# Altium footprint library 28Pins_Project_V1I1_v4.PcbLib: 29 footprints (part 2 of 2)
Each footprint in its own frame and in the unit in brackets; x right, y up, seen from the top. Pads: shape width x height; smd on the part's side, far side on the other; paste and mask are expansions set on the pad; w line width, h text height; cw(c..) or ccw(c..) is an arc to the next point about the centre after c.
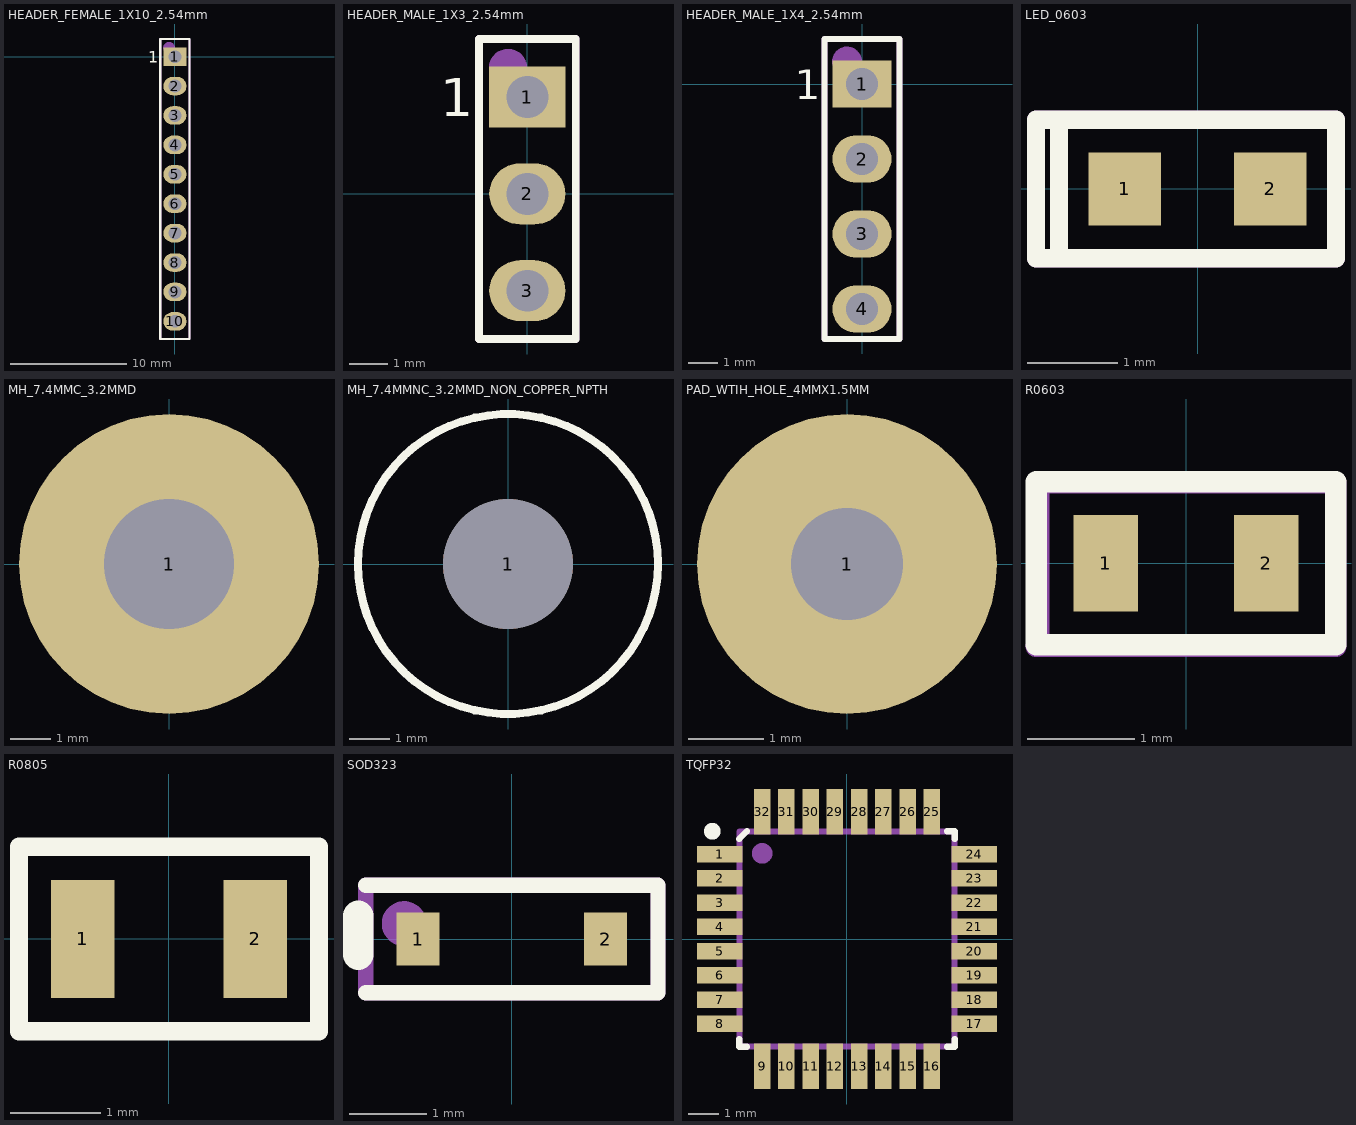
[diagram p1: the footprints below, top view; thin cyan lines are the x and y axes]

## HEADER_FEMALE_1X10_2.54mm [mm]
pads (10):
  rect 2x1.6 hole 1.1: 1(0,0)
  oval 2x1.6 hole 1.1: 2(0,-2.54) 3(0,-5.08) 4(0,-7.62) 5(0,-10.16) 6(0,-12.7) 7(0,-15.24) 8(0,-17.78) 9(0,-20.32) 10(0,-22.86)
Top Overlay:
  lines w0.2: -1.27,-24.384 -1.27,1.524 0,1.524 1.27,1.524 1.27,-24.384 -1.27,-24.384
  text "1" at -2.286,-0.508 h1
Mechanical 29:
  circle w0.5: c-0.508,0.762 r0.254
  lines w0.2: -1.27,-24.384 1.27,-24.384 1.27,1.524 -1.27,1.524 -1.27,-24.384
  text ".Designator" at 0.508,-15.748 h1.52
3D body "m20-7821046_asm.stp": height 8.31, standoff -3.19, extent -1.23,-24.33 1.27,1.47

## HEADER_MALE_1X3_2.54mm [mm]
pads (3):
  rect 2x1.6 hole 1.1: 1(0,2.54)
  oval 2x1.6 hole 1.1: 2(0,0) 3(0,-2.54)
Top Overlay:
  lines w0.2: -1.27,-3.806 1.266,-3.806 1.27,-3.802 1.27,4.064 0,4.064 -1.27,4.064 -1.27,-3.806
  text "1" at -2.286,2.032 h1
Mechanical 29:
  circle w0.5: c-0.508,3.302 r0.254
  lines w0.2: -1.27,-3.806 1.27,-3.806 1.27,4.064 -1.27,4.064 -1.27,-3.806
  text ".Designator" at 0,-1.27 h1.52
3D body "HDR_1x3_White.stp": height 8.39, standoff -3.11, extent -1.2,-3.71 1.21,3.51

## HEADER_MALE_1X4_2.54mm [mm]
pads (4):
  rect 2x1.6 hole 1.1: 1(0,0)
  oval 2x1.6 hole 1.1: 2(0,-2.54) 3(0,-5.08) 4(0,-7.62)
Top Overlay:
  lines w0.2: -1.27,-8.636 -1.27,1.524 0,1.524 1.27,1.524 1.27,-8.636 ; -1.27,-8.632 1.27,-8.632
  text "1" at -2.286,-0.508 h1
Mechanical 29:
  circle w0.5: c-0.508,0.762 r0.254
  lines w0.2: -1.27,-8.636 -1.27,1.524 1.27,1.524 1.27,-8.636 -1.27,-8.636
  text ".Designator" at 0.254,-3.81 h1.52
3D body "HDR_1x4_White.stp": height 8.39, standoff -3.11, extent -1.21,-8.76 1.2,1

## LED_0603 [mm]
pads (2):
  rect 0.8x0.8 smd: 1(-0.8,0) 2(0.8,0)
Top Overlay:
  lines w0.2: -1.524,-0.762 -1.778,-0.762 -1.778,0.762 -1.524,0.762 ; -1.524,-0.762 -1.524,0.762 ; -1.524,-0.762 1.524,-0.762 1.524,0.762 -1.524,0.762
Mechanical 29:
  lines w0.2: -1.778,-0.762 -1.778,0.762 1.524,0.762 1.524,-0.762 -1.778,-0.762
  text ".Designator" at -0.254,-0.254 h0.6
3D body: height 0.66, standoff 0.5, extent -0.254,-0.254 0.254,0.254
3D body "User Library-LED SMD 0603 super red.step": height 0.65, standoff 0, extent -0.85,-0.4 0.85,0.4

## MH_7.4MMC_3.2MMD [mm]
pads (1):
  round 7.4 hole 3.2: 1(0,0)

## MH_7.4MMNC_3.2MMD_NON_COPPER_NPTH [mm]
pads (1):
  round 3.2 hole 3.2 unplated: 1(0,0)
Top Overlay:
  circle w0.2: c0,0 r3.7

## PAD_WTIH_HOLE_4MMX1.5MM [mm]
pads (1):
  round 4 hole 1.5: 1(0,0)

## PCBComponent_1 [mm]

## PCBComponent_1 - duplicate [mm]

## R0603 [mm]
pads (2):
  rect 0.6x0.9 smd: 1(-0.75,0) 2(0.75,0)
Top Overlay:
  lines w0.2: -1.397,-0.762 -1.397,0.762 1.397,0.762 1.397,-0.762 -1.397,-0.762
Mechanical 29:
  lines w0.2: -1.4,-0.775 -1.375,-0.75 -1.375,0.75 1.4,0.75 1.4,-0.775 -1.4,-0.775
  text ".Designator" at -0.05,-0.025 h0.6
3D body "R0603.step": height 0.85, standoff 0.01, extent -0.75,-0.4 0.85,0.4

## R0805 [mm]
pads (2):
  rect 0.7x1.3 smd: 1(-0.95,0) 2(0.95,0)
Top Overlay:
  lines w0.2: -1.651,-1.016 1.651,-1.016 1.651,1.016 -1.651,1.016 -1.651,0 -1.651,-1.016
3D body "User Library-Chip Resistor2.step": height 0.71, standoff 0.01, extent -1,-0.6 1,0.6

## SOD323 [mil]
pads (2):
  rect 22x27 smd: 1(-48,0) 2(48,0)
Top Overlay:
  lines w7.87: -74.8,-27.56 74.8,-27.56 74.8,27.56 -74.8,27.56
  lines w15.75: -78.74,-7.87 -78.74,11.81
Mechanical 29:
  circle w11.81: c-55.12,7.87 r5.57
  lines w7.87: -74.8,-27.56 -74.8,27.56 74.8,27.56 74.8,-27.56 -74.8,-27.56
  text ".Designator" at -7.87,-3.94 h35.43
3D body "User Library-SOD2513X11.step": height 43.31, standoff 0, extent -53.14,-24.6 53.16,24.61

## TQFP32 [mm]
pads (32):
  rect 1.5x0.55 smd mask+0.06: 1(-4.2,2.8) 2(-4.2,2) 3(-4.2,1.2) 4(-4.2,0.4) 5(-4.2,-0.4) 6(-4.2,-1.2) 7(-4.2,-2) 8(-4.2,-2.8) 17(4.2,-2.8) 18(4.2,-2) 19(4.2,-1.2) 20(4.2,-0.4) 21(4.2,0.4) 22(4.2,1.2) 23(4.2,2) 24(4.2,2.8)
  rect 0.55x1.5 smd mask+0.06: 9(-2.8,-4.2) 10(-2,-4.2) 11(-1.2,-4.2) 12(-0.4,-4.2) 13(0.4,-4.2) 14(1.2,-4.2) 15(2,-4.2) 16(2.8,-4.2) 25(2.8,4.2) 26(2,4.2) 27(1.2,4.2) 28(0.4,4.2) 29(-0.4,4.2) 30(-1.2,4.2) 31(-2,4.2) 32(-2.8,4.2)
Top Overlay:
  circle w0.3: c-4.445,3.556 r0.127
  lines w0.2: -3.556,-3.302 -3.556,-3.556 -3.302,-3.556 ; -3.556,3.302 -3.302,3.556 ; 3.302,-3.556 3.556,-3.556 3.556,-3.302 ; 3.302,3.556 3.556,3.556 3.556,3.302
Mechanical 29:
  circle w0.5: c-2.8,2.825 r0.09
  lines w0.2: -3.55,-3.525 -3.525,-3.55 3.525,-3.55 3.55,-3.525 3.55,3.55 -3.55,3.55 -3.55,-3.525
  text ".Designator" at 0,-0.575 h1.8
3D body "User Library-tqfp32.step": height 1.2, standoff 0, extent -4.6,-4.6 4.599,4.599